# Altium footprint library diode.PCBLIB: 206 footprints (part 11 of 13)
Each footprint in its own frame and in the unit in brackets; x right, y up, seen from the top. Pads: shape width x height; smd on the part's side, far side on the other; paste and mask are expansions set on the pad; w line width, h text height; cw(c..) or ccw(c..) is an arc to the next point about the centre after c.
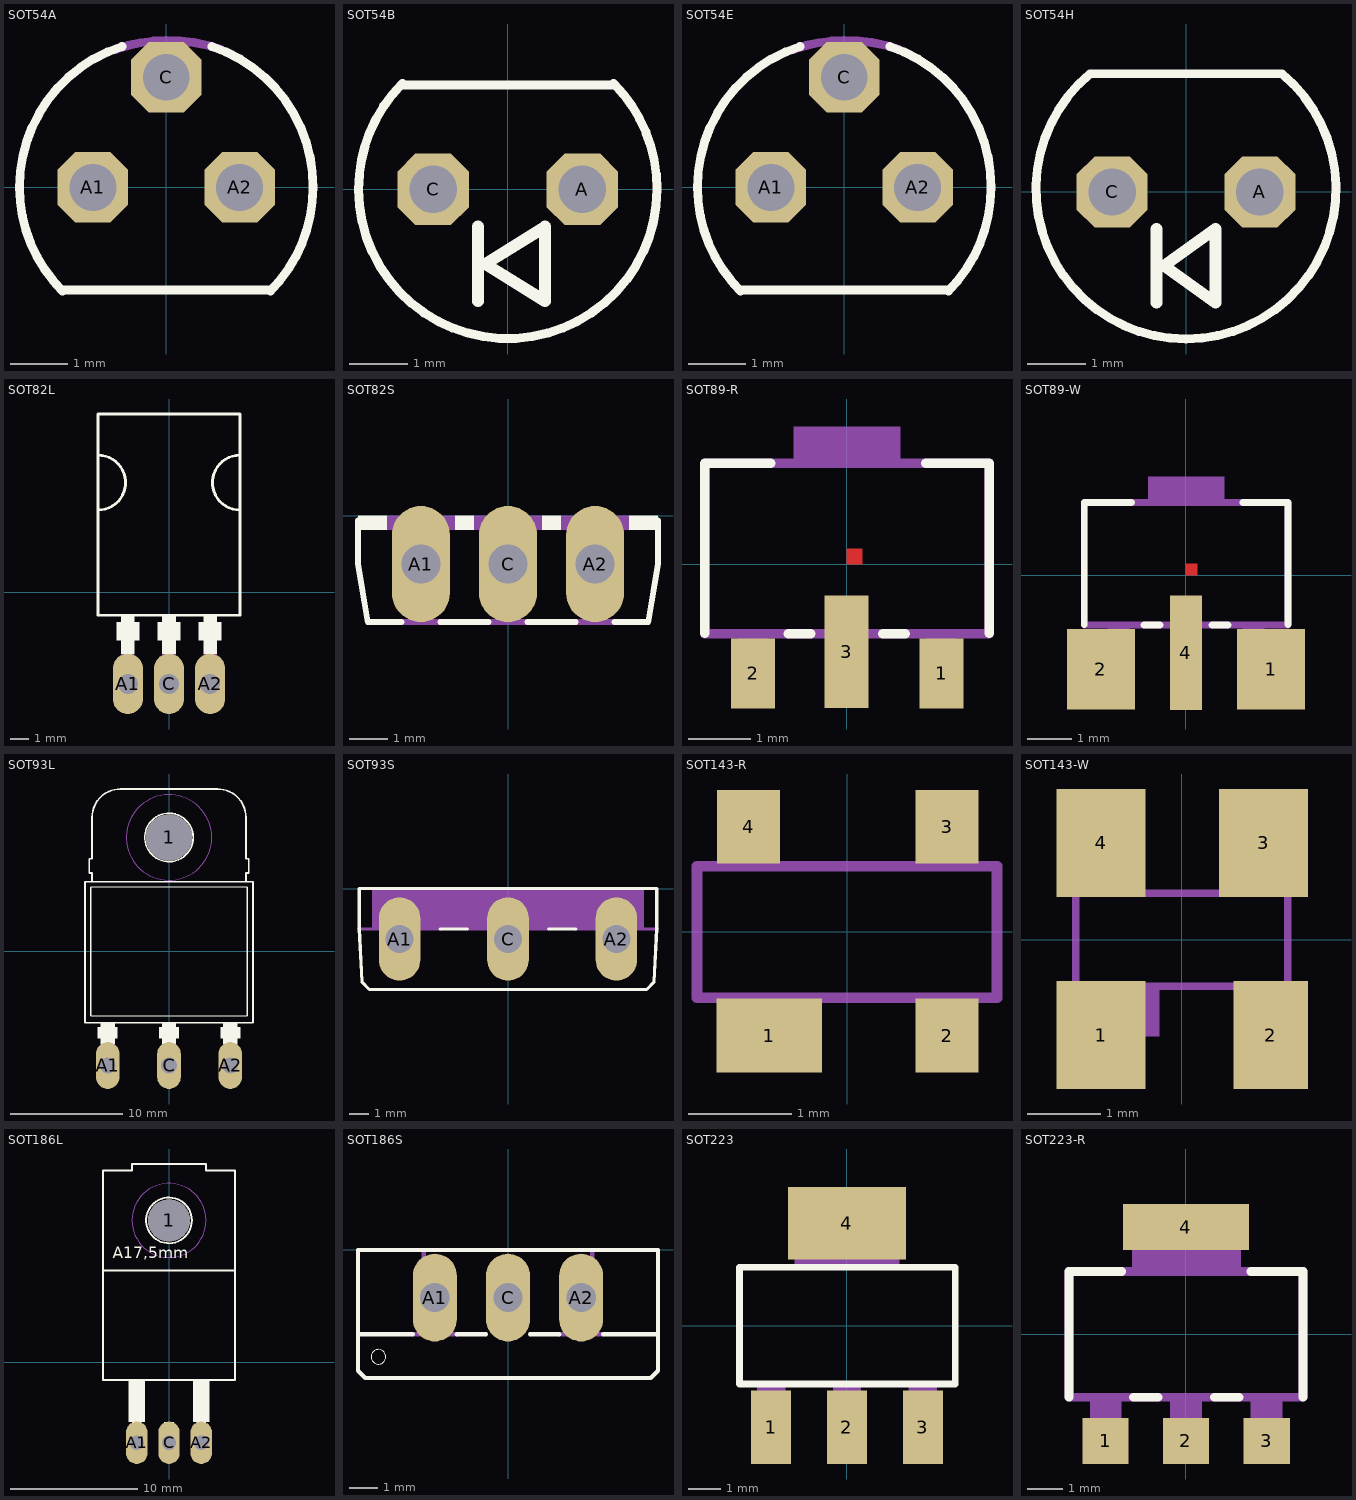
[diagram p10: the footprints below, top view; thin cyan lines are the x and y axes]

## SOT54A [mil]
pads (3):
  oct 48x48 hole 32: A1(-50,0) A2(50,0) C(0,75)
Top Overlay:
  lines w6: -70.71,-70.71 cw(c0,0) -100,0 cw(c0.44,0.32) -30.11,96 ; -70,-70 70,-70 ; 31,96 cw(c0.01,0.93) 100,0 cw(c0.14,-0.35) 71,-70.71
Mechanical 16:
  lines w6: -34.57,94 cw(c-0.46,0.08) 0,100 cw(c2.51,-1.62) 37,94

## SOT54B [mil]
pads (2):
  oct 48x48 hole 32: A(50,0) C(-50,0)
Top Overlay:
  lines w6: -70.71,71 ccw(c0.35,0.15) -100,0 ccw(c0,0) 100,0 ccw(c-0.2,0.49) 71,71 ; -70,70 70,70
  lines w8: -20,-75 -20,-25 ; -15,-50 25,-25 25,-75 -15,-50

## SOT54E [mil]
pads (3):
  oct 48x48 hole 32: A1(-50,0) A2(50,0) C(0,75)
Top Overlay:
  lines w6: -70.71,-70.71 cw(c0,0) -100,0 cw(c0.44,0.32) -30.11,96 ; -70,-70 70,-70 ; 31,96 cw(c0.01,0.93) 100,0 cw(c0.14,-0.35) 71,-70.71
Mechanical 16:
  lines w6: -34.57,94 cw(c-0.46,0.08) 0,100 cw(c2.51,-1.62) 37,94

## SOT54H [mil]
pads (2):
  oct 48x48 hole 32: A(50,0) C(-50,0)
Top Overlay:
  lines w6: -65,80 ccw(c0,2) 65,80 -65,80
  lines w8: -20,-75 -20,-25 ; -15,-50 20,-25 20,-75 -15,-50

## SOT82L [mil]
pads (3):
  oval 66x132 hole 44: A1(-90,-200) A2(90,-200) C(0,-200)
Top Overlay:
  rectangle: -25,-105 25,-65
  rectangle: 65,-105 115,-65
  rectangle: -115,-105 -65,-65
  rectangle: -105,-135 -75,-50
  rectangle: -15,-135 15,-50
  rectangle: 75,-135 105,-50
  lines w6: -155,180 -155,-50 155,-50 155,180 ; -155,180 -155,300 ; -155,180 ccw(c-155,240) -155,300 ; -155,300 -155,390 155,390 155,300 ; 155,180 155,300 ; 155,180 cw(c155,240) 155,300
Mechanical 16:
  rectangle: -105,-195 -75,-135
  rectangle: -15,-195 15,-135
  rectangle: 75,-195 105,-135

## SOT82S [mil]
pads (3):
  oval 60x120 hole 40: A1(-90,-50) A2(90,-50) C(0,-50)
Top Overlay:
  rectangle: -155,-15 -125,0
  rectangle: -55,-15 -35,0
  rectangle: 35,-15 55,0
  rectangle: 125,-15 155,0
  lines w6: -155,-5 -155,-50 -145,-110 -110,-110 ; -70,-110 -20,-110 ; 20,-110 70,-110 ; 110,-110 145,-110 155,-50 155,-5
Mechanical 16:
  rectangle: -125,-15 -55,0
  rectangle: -35,-15 35,0
  rectangle: 55,-15 125,0
  lines w6: -110,-110 -70,-110 ; -20,-110 20,-110 ; 70,-110 110,-110

## SOT89-R [mil]
pads (3):
  rect 28x44 smd: 1(60,-68.9) 2(-59.06,-68.9)
  rect 28x71 smd: 3(0,-55.12)
Top Layer:
  region: 0,0 10,0 10,10 0,10
Top Overlay:
  lines w6: -89.46,-43.4 -89.46,64 -47.78,64 ; -36.87,-43.72 -22.74,-43.72 ; 23,-43.72 37,-43.72 ; 50,64 90,64 90,-43.4
Top Paste:
  rectangle: -13.78,-90.55 14,-47.24
  rectangle: -37.4,-17.72 38,89
Top Solder:
  rectangle: -17.72,-94.49 18,-43.31
  rectangle: -43.31,-23.62 44,95
Mechanical 16:
  rectangle: -68.9,-84.65 -49.21,-45.28
  rectangle: -9.84,-84.65 10,-45.28
  rectangle: 50,-84.65 69,-45.28
  rectangle: -33.46,65 34,87
  lines w6: -89.46,-43.72 90,-43.72 90,64 -89.46,64 -89.46,-43.72

## SOT89-W [mil]
pads (3):
  rect 60x71 smd: 1(75,-82.68) 2(-74.8,-82.68)
  rect 28x101 smd: 4(0,-68.11)
Top Layer:
  region: 0,0 10,0 10,10 0,10
Top Overlay:
  lines w6: -89.46,-43.4 -89.46,64 -47.78,64 ; -36.87,-43.72 -22.74,-43.72 ; 23,-43.72 37,-43.72 ; 50,64 90,64 90,-43.4
Top Paste:
  rectangle: -13.78,-118.11 14,-47.24
  rectangle: -44.29,-15.75 45,135
Top Solder:
  rectangle: -17.72,-122.05 18,-43.31
  rectangle: -51.18,-23.62 52,142
Mechanical 16:
  rectangle: -68.9,-84.65 -49.21,-45.28
  rectangle: -9.84,-84.65 10,-45.28
  rectangle: 50,-84.65 69,-45.28
  rectangle: -33.46,65 34,87
  lines w6: -89.46,-43.72 90,-43.72 90,64 -89.46,64 -89.46,-43.72

## SOT93L [mil]
pads (4):
  round 162 hole 162: 1(0,400)
  oval 82.5x165 hole 55: A1(-215,-400) A2(215,-400) C(0,-400)
Top Overlay:
  circle w6: c0,400 r85
  rectangle: -250,-305 -180,-265
  rectangle: 180,-305 250,-265
  rectangle: -240,-325 -190,-250
  rectangle: -25,-325 25,-250
  rectangle: 190,-325 240,-250
  rectangle: -35,-305 35,-265
  lines w2: -275,-225 275,-225 ; -275,225 275,225
  lines w6: -275,-225 -275,225 ; 275,-225 275,225 ; -270,245 -270,275 -280,275 -280,325 -270,325 -270,470 cw(c-170,470) -170,570 170,570 cw(c170,470) 270,470 270,325 280,325 280,275 270,275 270,245 ; -270,245 -295,245 -295,-250 295,-250 295,245 270,245 ; -270,245 270,245
Mechanical 9:
  circle w0: c0,400 r150
Mechanical 10:
  circle w0: c0,400 r150
Mechanical 16:
  rectangle: -240,-385 -190,-350
  rectangle: -240,-400 -190,-325
  rectangle: -25,-400 25,-325
  rectangle: 190,-400 240,-325

## SOT93S [mil]
pads (3):
  oval 82.5x165 hole 55: A1(-215,-100) A2(215,-100) C(0,-100)
Top Overlay:
  lines w6: -135,-80 -80,-80 ; 80,-80 135,-80 ; -295,-80 -295,0 295,0 295,-80 290,-185 275,-200 -275,-200 -290,-185 -295,-80
Mechanical 16:
  rectangle: -270,-80 270,0
  lines w6: -295,-80 -135,-80 ; -80,-80 80,-80 ; 135,-80 295,-80

## SOT143-R [mil]
pads (4):
  rect 40x28 smd: 1(-29.53,-39.37)
  rect 24x28 smd: 2(38,-39.37) 3(38,40) 4(-37.4,40)
Mechanical 16:
  rectangle: 29,-52 47,-25
  rectangle: 28,25 46,52
  rectangle: -45,25 -27,52
  rectangle: -47,-52 -12,-25
  lines w4: -57,-25 57,-25 57,25 -57,25 -57,-25

## SOT143-W [mil]
pads (4):
  rect 48x58 smd: 1(-43.31,-51.18) 3(44,52) 4(-43.31,52)
  rect 40x58 smd: 2(48,-51.18)
Mechanical 16:
  rectangle: 29,-52 47,-25
  rectangle: 28,25 46,52
  rectangle: -45,25 -27,52
  rectangle: -47,-52 -12,-25
  lines w4: -57,-25 57,-25 57,25 -57,25 -57,-25

## SOT186L [mil]
pads (4):
  round 130 hole 130: 1(0,440)
  oval 66x132 hole 44: A1(-100,-250) A2(100,-250) C(0,-250)
Top Overlay:
  circle w6: c0,440 r71
  rectangle: -125,-185 -75,-55
  rectangle: 75,-185 125,-55
  rectangle: 85,-190 115,-185
  rectangle: -115,-190 -85,-185
  rectangle: -15,-190 15,-185
  lines w6: -205,285 -205,-55 205,-55 205,285 ; -205,285 205,285 ; -205,285 -205,595 -115,595 -115,615 115,615 115,595 205,595 205,285
  text "A17,5mm" at -175,310 h60.45
Mechanical 9:
  circle w0: c0,440 r115
Mechanical 10:
  circle w0: c0,440 r115
Mechanical 16:
  rectangle: 85,-255 115,-190
  rectangle: -115,-255 -85,-190
  rectangle: -15,-255 15,-190

## SOT186S [mil]
pads (3):
  oval 60x120 hole 40: A1(-100,-65) A2(100,-65) C(0,-65)
Top Overlay:
  circle w0: c-177,-146 r10
  lines w6: -130,-115 -205,-115 ; -70,-115 -30,-115 ; 30,-115 70,-115 ; 130,-115 205,-115 ; -205,-115 -205,-165 -195,-175 195,-175 205,-165 205,-115 ; -205,-115 -205,0 205,0 205,-115
Mechanical 16:
  lines w6: -130,-115 -115,-115 ; -115,0 -115,-115 ; -70,-115 -115,-115 ; 70,-115 115,-115 ; 115,0 115,-115 ; 130,-115 115,-115

## SOT223 [mil]
pads (4):
  rect 48x88 smd: 1(-90.98,-122.01) 2(0,-122.01) 3(91,-122.01)
  rect 142x87 smd: 4(0,123)
Top Overlay:
  lines w8: -129.02,-70 130,-70 130,70 -129.02,70 -129.02,-70
Mechanical 16:
  rectangle: -63,71 63,144
  rectangle: -17,-144 17,-71
  rectangle: -108,-144 -74,-71
  rectangle: 74,-144 108,-71
  rectangle: -63,71 63,144
  rectangle: -17,-144 17,-71
  rectangle: -108,-144 -74,-71
  rectangle: 74,-144 108,-71

## SOT223-R [mil]
pads (4):
  rect 52x52 smd: 1(-90.55,-120.08) 2(0,-120.08) 3(91,-120.08)
  rect 142x52 smd: 4(0,121)
Top Overlay:
  lines w10: -131.89,-70.87 -131.89,71 -72.83,71 ; -59.06,-70.87 -31.5,-70.87 ; 32,-70.87 60,-70.87 ; 73,71 132,71 132,-70.87
Mechanical 16:
  rectangle: -108.27,-135.83 -72.83,-74.8
  rectangle: -17.72,-135.83 18,-74.8
  rectangle: 73,-135.83 109,-74.8
  rectangle: -61.02,75 62,136
  lines w10: -131.89,-70.87 -131.89,71 132,71 132,-70.87 -131.89,-70.87